# Altium footprint library Tiresias_mechanical.PcbLib: 16 footprints
Each footprint in its own frame and in the unit in brackets; x right, y up, seen from the top. Pads: shape width x height; smd on the part's side, far side on the other; paste and mask are expansions set on the pad; w line width, h text height; cw(c..) or ccw(c..) is an arc to the next point about the centre after c.
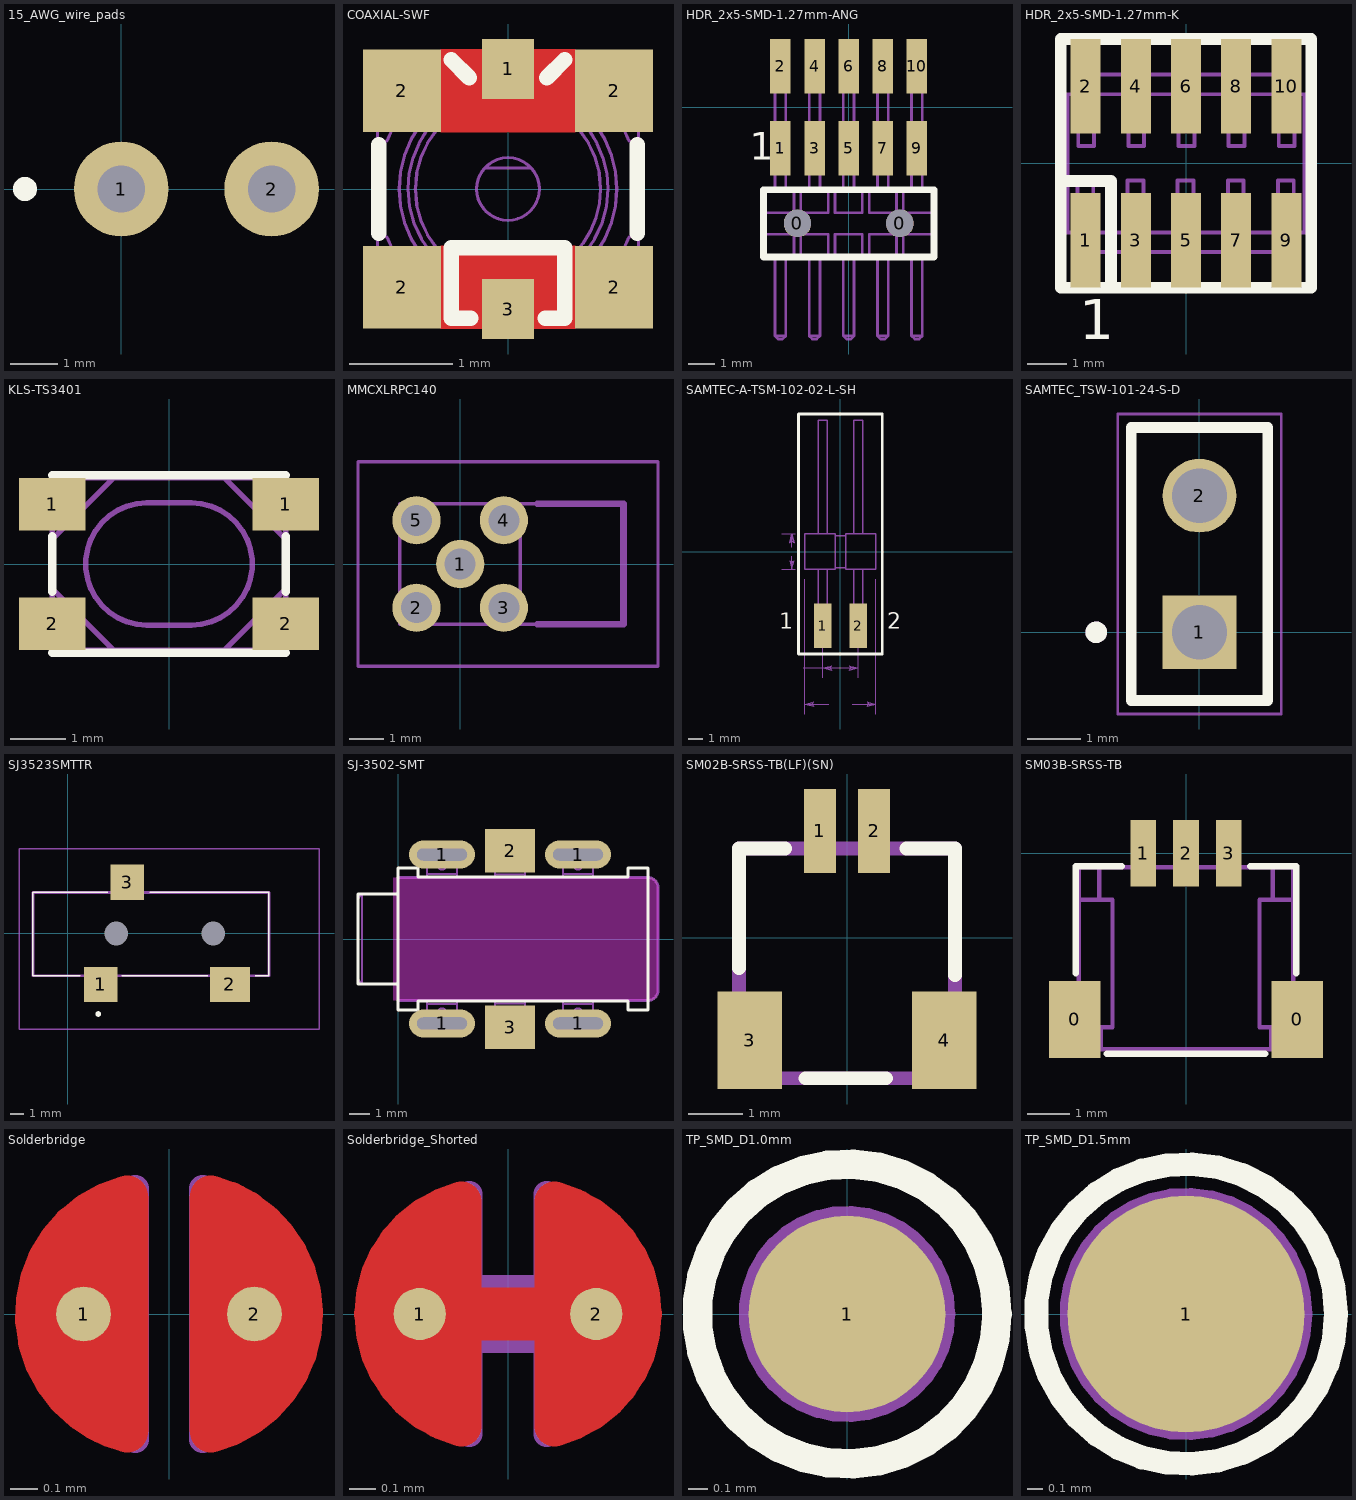
[diagram p0: the footprints below, top view; thin cyan lines are the x and y axes]

## 15_AWG_wire_pads [mm]
pads (2):
  round 2 / inner round 1.524 / far side round 2 hole 1: 1(0,0) 2(3.175,0)
Top Overlay:
  circle w0.254: c-2.032,0 r0.127

## COAXIAL-SWF [mm]
pads (6):
  rect 0.5x0.58 smd: 1(0,1.16) 3(0,-1.16)
  rect 0.75x0.8 smd: 2(-1.025,-0.95) 2(-1.025,0.95) 2(1.025,-0.95) 2(1.025,0.95)
Top Layer:
  pour cut-out: -0.65,0.55 0.65,0.55 0.65,1.35 -0.65,1.35
  pour cut-out: 0.65,-0.55 -0.65,-0.55 -0.65,-1.35 0.65,-1.35
Top Overlay:
  lines w0.15: -1.25,-0.43 -1.25,0.43 ; -0.55,1.25 -0.375,1.075 ; -0.36,-1.25 -0.55,-1.25 -0.55,-0.57 0.55,-0.57 0.55,-1.25 0.36,-1.25 ; 0.375,1.075 0.55,1.25 ; 1.25,-0.43 1.25,0.43
Mechanical 7:
  drawing of 206 lines, arcs and shapes, not listed
  text ".Designator" at -0.785,-0.7 h0.38
3D body: height 0.15, standoff 0, extent -0.227,-1.301 0.227,-0.758
3D body: height 0.15, standoff 0, extent -0.227,0.899 0.227,1.299
3D body: height 0.6, standoff 0.55, extent -1.262,-1.248 1.262,1.251
3D body: height 1.4, standoff 0.6, extent -0.9,-0.9 0.9,0.901
3D body: height 0.75, standoff 0.6, extent -1.05,-1.049 1.05,1.05
3D body: height 0.95, standoff 0.75, extent -1,-0.999 1,1.001
3D body: height 0.6, standoff 0, extent 0.757,0.655 1.262,1.249
3D body: height 0.6, standoff 0, extent 0.757,-1.246 1.262,-0.653
3D body: height 0.6, standoff 0, extent -1.262,-1.25 -0.757,-0.649
3D body: height 0.6, standoff 0, extent -1.262,0.655 -0.757,1.248
3D body: height 0.55, standoff 0.1, extent -1.262,-1.252 1.262,1.253
3D body: height 0.9, standoff 0.6, extent -1.05,-1.049 1.05,1.05
3D body: height 1.25, standoff 0.95, extent -1.05,-1.049 1.05,1.05
3D body: height 1.55, standoff 1.25, extent -1.05,-1.05 1.05,1.05

## HDR_2x5-SMD-1.27mm-ANG [mm]
pads (12):
  round 1.02 hole 1.02 unplated: 0(-1.905,-4.32) 0(1.905,-4.32)
  rect 0.76x2.03 smd: 1(-2.54,-1.525) 2(-2.54,1.525) 3(-1.27,-1.525) 4(-1.27,1.525) 5(0,-1.525) 6(0,1.525) 7(1.27,-1.525) 8(1.27,1.525) 9(2.54,-1.525) 10(2.54,1.525)
Top Overlay:
  lines w0.254: -3.17,-5.57 3.17,-5.57 3.17,-3.07 -3.17,-3.07 -3.17,-5.57
  text "1" at -3.68,-1.96 h1.02
Mechanical 7:
  lines w0.1: -3.17,-4.72 -2.032,-4.72 -2.032,-5.57 ; -3.17,-3.92 -2.032,-3.92 -2.032,-3.048 ; -2.74,-5.57 -2.74,-8.5 ; -2.74,-3.048 -2.74,2.282 -2.34,2.282 -2.34,-3.048 ; -2.74,-0.758 -2.34,-0.758 ; -2.74,1.472 -2.34,1.472 ; -2.34,-5.57 -2.34,-8.5 ; -1.778,-5.57 -1.778,-4.72 -0.762,-4.72 -0.762,-5.57 ; -1.778,-3.048 -1.778,-3.92 -0.762,-3.92 -0.762,-3.048 ; -1.47,-5.57 -1.47,-8.5 ; -1.47,-3.048 -1.47,2.282 -1.07,2.282 -1.07,-3.048 ; -1.47,-0.758 -1.07,-0.758 ; -1.47,1.472 -1.07,1.472 ; -1.07,-5.57 -1.07,-8.5 ; -0.508,-5.57 -0.508,-4.72 0.508,-4.72 0.508,-5.57 ; -0.508,-3.048 -0.508,-3.92 0.508,-3.92 0.508,-3.048 ; -0.2,-5.57 -0.2,-8.5 ; -0.2,-3.048 -0.2,2.282 0.2,2.282 0.2,-3.048 ; -0.2,-0.758 0.2,-0.758 ; -0.2,1.472 0.2,1.472 ; 0.2,-5.57 0.2,-8.5 ; 0.762,-5.57 0.762,-4.72 1.778,-4.72 1.778,-5.57 ; 0.762,-3.048 0.762,-3.92 1.778,-3.92 1.778,-3.048 ; 1.07,-5.57 1.07,-8.5 ; 1.07,-3.048 1.07,2.282 1.47,2.282 1.47,-3.048 ; 1.07,-0.758 1.47,-0.758 ; 1.07,1.472 1.47,1.472 ; 1.47,-5.57 1.47,-8.5 ; 2.032,-5.57 2.032,-4.72 3.17,-4.72 ; 2.032,-3.048 2.032,-3.92 3.17,-3.92 ; 2.34,-5.57 2.34,-8.5 ; 2.34,-3.048 2.34,2.282 2.74,2.282 2.74,-3.048 ; 2.34,-0.758 2.74,-0.758 ; 2.34,1.472 2.74,1.472 ; 2.74,-5.57 2.74,-8.5 ; -2.74,-8.5 -2.34,-8.5 ; -2.74,-8.5 -2.62,-8.62 -2.46,-8.62 -2.34,-8.5 ; -1.47,-8.5 -1.07,-8.5 ; -1.47,-8.5 -1.35,-8.62 -1.19,-8.62 -1.07,-8.5 ; -0.2,-8.5 -0.08,-8.62 0.08,-8.62 0.2,-8.5 ; -0.2,-8.5 0.2,-8.5 ; 1.07,-8.5 1.47,-8.5 ; 1.07,-8.5 1.19,-8.62 1.35,-8.62 1.47,-8.5 ; 2.34,-8.5 2.74,-8.5 ; 2.34,-8.5 2.46,-8.62 2.62,-8.62 2.74,-8.5 ; -3.17,-5.57 3.17,-5.57 3.17,-3.048 -3.17,-3.048 -3.17,-5.57
  text ".Designator" at -1.504,-4.407 h0.3
3D body "Samtec-FTSH-105-01-L-DH-A.step": height 3.41, standoff -1.03, extent -3.175,-8.627 3.175,2.27

## HDR_2x5-SMD-1.27mm-K [mm]
pads (10):
  rect 0.76x2.4 smd: 1(-2.54,-1.95) 2(-2.54,1.95) 3(-1.27,-1.95) 4(-1.27,1.95) 5(0,-1.95) 6(0,1.95) 7(1.27,-1.95) 8(1.27,1.95) 9(2.54,-1.95) 10(2.54,1.95)
Top Overlay:
  lines w0.3: -3.175,-0.45 -1.9,-0.45 -1.9,-3.15 ; -3.175,-3.15 3.175,-3.15 3.175,3.15 -3.175,3.15 -3.175,-3.15
  text "1" at -2.7,-4.45 h1.02
Mechanical 7:
  lines w0.1: -2.74,-1.75 -2.74,-2.459 ccw(c-2.54,-2.459) -2.34,-2.459 -2.34,-2.25 ; -2.74,1.75 -2.74,2.459 cw(c-2.54,2.459) -2.34,2.459 -2.34,2.25 ; -2.5,-1.75 -2.5,-2.25 -1.25,-2.25 ; -2.5,1.75 -2.5,2.25 2.5,2.25 2.5,1.75 ; -1.47,-2.25 -1.47,-2.459 ccw(c-1.27,-2.459) -1.07,-2.459 -1.07,-2.25 ; -1.47,2.25 -1.47,2.459 cw(c-1.27,2.459) -1.07,2.459 -1.07,2.25 ; -1.25,-1.75 -1.25,-2.25 ; -0.2,-2.25 -0.2,-2.459 ccw(c0,-2.459) 0.2,-2.459 0.2,-2.25 ; -0.2,2.25 -0.2,2.459 cw(c0,2.459) 0.2,2.459 0.2,2.25 ; 1.07,-2.25 1.07,-2.459 ccw(c1.27,-2.459) 1.47,-2.459 1.47,-2.25 ; 1.07,2.25 1.07,2.459 cw(c1.27,2.459) 1.47,2.459 1.47,2.25 ; 1.25,-1.75 1.25,-2.25 ; 2.34,-2.25 2.34,-2.459 ccw(c2.54,-2.459) 2.74,-2.459 2.74,-1.75 ; 2.34,2.25 2.34,2.459 cw(c2.54,2.459) 2.74,2.459 2.74,1.75 ; 2.5,-1.75 2.5,-2.25 1.25,-2.25 ; -1.25,-2.25 1.25,-2.25 ; -3,-1.75 3,-1.75 3,1.75 -3,1.75 -3,-1.75 ; -2.75,-0.835 -2.35,-0.835 -2.35,-0.435 -2.75,-0.435 -2.75,-0.835 ; -2.73,0.435 -2.33,0.435 -2.33,0.835 -2.73,0.835 -2.73,0.435 ; -1.48,-0.835 -1.08,-0.835 -1.08,-0.435 -1.48,-0.435 -1.48,-0.835 ; -1.46,0.435 -1.06,0.435 -1.06,0.835 -1.46,0.835 -1.46,0.435 ; -0.21,-0.835 0.19,-0.835 0.19,-0.435 -0.21,-0.435 -0.21,-0.835 ; -0.19,0.435 0.21,0.435 0.21,0.835 -0.19,0.835 -0.19,0.435 ; 1.06,-0.835 1.46,-0.835 1.46,-0.435 1.06,-0.435 1.06,-0.835 ; 1.08,0.435 1.48,0.435 1.48,0.835 1.08,0.835 1.08,0.435 ; 2.33,-0.835 2.73,-0.835 2.73,-0.435 2.33,-0.435 2.33,-0.835 ; 2.35,0.435 2.75,0.435 2.75,0.835 2.35,0.835 2.35,0.435
  text ".Designator" at -0.457,-0.203 h0.38
3D body "Samtec-FTSH-105-01-F-DV-K.step": height 6.11, standoff -0.01, extent -3.137,-2.921 3.137,2.921

## KLS-TS3401 [mm]
pads (4):
  rect 1.2x0.95 smd: 1(-2.1,1.075) 1(2.1,1.075) 2(-2.1,-1.075) 2(2.1,-1.075)
Top Overlay:
  lines w0.15: -2.1,-1.6 2.1,-1.6 ; -2.1,-0.5 -2.1,0.5 ; -2.1,1.6 2.1,1.6 ; 2.1,-0.5 2.1,0.5
Mechanical 7:
  lines w0.1: -2.1,-1.35 -2.3,-1.35 -2.3,-0.8 -2.1,-0.8 ; -2.1,-0.45 -1,-1.55 ; -2.1,0.45 -1,1.55 ; -2.1,0.8 -2.3,0.8 -2.3,1.35 -2.1,1.35 ; 1,-1.55 2.1,-0.45 ; 1,1.55 2.1,0.45 ; 2.1,-1.35 2.3,-1.35 2.3,-0.8 2.1,-0.8 ; 2.1,0.8 2.3,0.8 2.3,1.35 2.1,1.35 ; -2.1,-1.45 ccw(c-2,-1.45) -2,-1.55 2,-1.55 ccw(c2,-1.45) 2.1,-1.45 2.1,1.45 ccw(c2,1.45) 2,1.55 -2,1.55 ccw(c-2,1.45) -2.1,1.45 -2.1,-1.45 ; -0.4,-1.1 cw(c-0.4,0) -0.4,1.1 0.4,1.1 cw(c0.4,0) 0.4,-1.1 -0.4,-1.1
  text ".Designator" at -1.523,-0.092 h0.3
3D body "Y97LT25BADBFP_-PTS810 SJ 250 SMTR.stp": height 2.5, standoff 0, extent -2.287,-1.6 2.288,1.6

## MMCXLRPC140 [mm]
pads (5):
  round 1.4 hole 0.9: 1(0,0) 2(-1.27,-1.27) 3(1.27,-1.27) 4(1.27,1.27) 5(-1.27,1.27)
Mechanical 3:
  lines w0.1: 1.75,-1.75 4.75,-1.75 4.75,1.75 1.75,1.75 ; 1.75,-1.75 -1.75,-1.75 -1.75,1.75 1.75,1.75 ; 1.75,-1.75 1.75,1.75 ; -2.97,-2.97 -2.97,2.97 5.75,2.97 5.75,-2.97 -2.97,-2.97
Mechanical 7:
  lines w0.2: 2.25,-1.75 4.75,-1.75 4.75,1.75 2.25,1.75
3D body "MMCX-J-P-H-RA-TH1.stp": height 4.29, standoff -2.51, extent -1.726,-1.778 4.774,1.722

## SAMTEC-A-TSM-102-02-L-SH [mm]
pads (2):
  rect 1.27x3.18 smd: 1(-1.27,-5.283) 2(1.27,-5.283)
Top Overlay:
  lines w0.2: -2.99,-7.324 -2.99,9.848 2.99,9.848 2.99,-7.324 -2.99,-7.324
  text "1" at -4.36,-5.918 h1.97
  text "2" at 3.331,-5.918 h1.97
Top Paste:
  rectangle: -1.905,-6.873 -0.635,-3.693
  rectangle: 0.635,-6.873 1.905,-3.693
Top Solder:
  rectangle: -1.956,-6.924 -0.584,-3.642
  rectangle: 0.584,-6.924 1.956,-3.642
Mechanical 16:
  lines w0.1: -1.588,-1.27 -1.588,-6.096 -0.952,-6.096 -0.952,-1.27 ; -1.588,1.27 -1.588,9.398 -0.952,9.398 -0.952,1.27 ; -0.381,-1.143 0,-1.143 0.381,-1.143 ; -0.381,1.143 0,1.143 0.381,1.143 ; 0.952,-1.27 0.952,-6.096 1.588,-6.096 1.588,-1.27 ; 0.952,1.27 0.952,9.398 1.588,9.398 1.588,1.27 ; -2.54,-1.27 -2.54,1.27 -0.381,1.27 -0.381,-1.27 -2.54,-1.27 ; 0.381,-1.27 2.54,-1.27 2.54,1.27 0.381,1.27 0.381,-1.27
  text "1" at -4.36,-5.918 h1.97
  text "2" at 3.331,-5.918 h1.97
Mechanical 40:
  lines w0: -4.181,-1.27 -3.241,-1.27 ; -4.181,1.27 -3.241,1.27 ; -3.48,-0.318 -3.48,-1.27 ; -3.48,0.318 -3.48,1.27 ; -2.642,-8.318 -1.27,-8.318 ; -2.54,-11.61 -2.54,-1.971 ; -1.27,-9.02 -1.27,-5.984 ; -0.851,-10.909 -2.54,-10.909 ; 0.851,-10.909 2.54,-10.909 ; 1.27,-9.02 1.27,-5.984 ; 2.54,-11.61 2.54,-1.971 ; -3.639,-0.635 -3.48,-1.27 ; -3.639,-0.635 -3.48,-0.762 ; -3.639,-0.635 -3.559,-0.698 -3.48,-1.27 ; -3.48,-1.27 -3.321,-0.635 -3.48,-0.762 ; -3.48,-1.27 -3.4,-0.698 -3.48,-0.762 ; -3.48,-1.27 -3.48,-0.762 ; -3.48,0.762 -3.639,0.635 -3.48,1.27 ; -3.48,0.762 -3.321,0.635 ; -3.48,0.762 -3.559,0.698 -3.48,1.27 ; -3.48,0.762 -3.48,1.27 ; -3.48,1.27 -3.321,0.635 ; -3.48,1.27 -3.4,0.698 -3.321,0.635 ; -2.54,-10.909 -1.905,-10.751 ; -2.54,-10.909 -1.905,-11.068 -2.032,-10.909 ; -2.54,-10.909 -1.968,-10.989 -2.032,-10.909 ; -2.54,-10.909 -2.032,-10.909 ; -2.54,-10.909 -1.968,-10.83 -1.905,-10.751 ; -2.032,-10.909 -1.905,-10.751 ; -1.27,-8.318 -0.635,-8.16 ; -1.27,-8.318 -0.635,-8.477 -0.762,-8.318 ; -1.27,-8.318 -0.698,-8.398 -0.762,-8.318 ; -1.27,-8.318 -0.762,-8.318 ; -1.27,-8.318 -0.698,-8.239 -0.635,-8.16 ; -1.27,-8.318 1.27,-8.318 ; -0.762,-8.318 -0.635,-8.16 ; 0.635,-8.477 1.27,-8.318 ; 0.635,-8.477 0.762,-8.318 ; 0.635,-8.477 0.698,-8.398 1.27,-8.318 ; 0.762,-8.318 0.635,-8.16 1.27,-8.318 ; 0.762,-8.318 0.698,-8.239 1.27,-8.318 ; 0.762,-8.318 1.27,-8.318 ; 1.905,-11.068 2.54,-10.909 ; 1.905,-11.068 2.032,-10.909 ; 1.905,-11.068 1.968,-10.989 2.54,-10.909 ; 2.032,-10.909 1.905,-10.751 2.54,-10.909 ; 2.032,-10.909 1.968,-10.83 2.54,-10.909 ; 2.032,-10.909 2.54,-10.909
  text "5.080" at -0.66,-11.036 h0.39
  text "2.540" at -4.153,-8.446 h0.39
  text "2.540" at -4.14,-0.127 h0.39
Mechanical 42:
  lines w0.1: -2.99,-7.324 -2.99,9.848 2.99,9.848 2.99,-7.324 -2.99,-7.324
3D body "TSM-102-02-L-SH.stp": height 3.05, standoff 0, extent -2.54,-6.096 2.54,9.398

## SAMTEC_TSW-101-24-S-D [mm]
pads (2):
  rect 1.37x1.37 hole 1.02: 1(0,0)
  round 1.37 hole 1.02: 2(0,2.54)
Top Overlay:
  circle w0.2: c-1.92,0 r0.1
  lines w0.2: -1.27,-1.27 -1.27,3.81 1.27,3.81 1.27,-1.27 -1.27,-1.27
Mechanical 13:
  circle w0.2: c-1.92,0 r0.1
  lines w0.1: -1.27,-1.27 -1.27,3.81 1.27,3.81 1.27,-1.27 -1.27,-1.27
Mechanical 15:
  lines w0.05: -1.52,-1.52 -1.52,4.06 1.52,4.06 1.52,-1.52 -1.52,-1.52
3D body "TSW-101-24-S-D.stp": height 9.27, standoff -2.92, extent -1.27,-1.397 1.27,3.683

## SJ3523SMTTR [mm]
pads (5):
  rect 2.4x2.55 smd: 1(2.385,-3.675) 3(4.285,3.675)
  rect 2.9x2.55 smd: 2(11.685,-3.675)
  round 0.85 hole 1.7 unplated: MH1(3.5,0) MH2(10.5,0)
Top Overlay:
  lines w0.1: 0.9,-3.05 -2.5,-3.05 -2.5,2.95 2.9,2.95 ; 3.9,-3.05 10.1,-3.05 ; 5.9,2.95 14.5,2.95 ; 13.5,-3.05 14.5,-3.05 14.5,-1.5 14.5,3
  lines w0.2: 2.1,-5.8 ccw(c2.2,-5.8) 2.3,-5.8 ccw(c2.2,-5.8) 2.1,-5.8
Mechanical 15:
  lines w0.2: -2.5,-3.05 14.5,-3.05 14.5,2.95 -2.5,2.95 -2.5,-3.05
Mechanical 20:
  lines w0.1: -3.5,-6.9 18.1,-6.9 18.1,6.1 -3.5,6.1 -3.5,-6.9
3D body "SJ-3523-SMT-TR--3DModel-STEP-1.STEP": height 5.55, standoff -0.25, extent -2.531,-4.555 14.469,4.445

## SJ-3502-SMT [mm]
pads (10):
  oval 3.3x1.4 hole 0.6 slot 2.5 at 0 deg: 1(2.2,-4.225) 1(2.2,4.225) 1(9,-4.225) 1(9,4.225)
  rect 2.5x2.175 smd: 2(5.6,4.413) 3(5.6,-4.413)
  oval 3.3x1.4 on Top Paste: ""(2.2,-4.225) ""(2.2,4.225) ""(9,-4.225) ""(9,4.225)
Top Overlay:
  lines w0.15: 0,-3.55 1,-3.55 1,-3.1 ; 0,3.55 1,3.55 1,3.1 ; 11.5,-3.1 11.5,-3.55 12.5,-3.55 ; 11.5,3.1 11.5,3.55 12.5,3.55
  lines w0.152: 0,-3.55 0,3.55 ; 0,-2.25 -2,-2.25 -2,2.25 0,2.25 ; 1,-3.1 11.5,-3.1 ; 1,3.1 11.5,3.1 ; 12.5,-3.55 12.5,3.55
Keep-Out Layer:
  board cut-out: -0.25,3.07 12.5,3.07 12.599,3.07 12.783,2.994 12.924,2.853 13,2.669 13,2.57 13,-2.57 13,-2.669 12.924,-2.853 12.783,-2.994 12.599,-3.07 12.5,-3.07 -0.25,-3.07
Mechanical 1:
  lines w0.15: 0,-3.07 12.5,-3.07 ccw(c12.5,-2.57) 13,-2.57 13,2.57 ccw(c12.5,2.57) 12.5,3.07 0,3.07
Mechanical 7:
  lines w0.1: -2.002,-2.046 -2.002,2.047 ; -2.001,-2.045 -1.797,-2.249 ; -2.002,2.045 -1.797,2.249 ; 0,-2.249 -1.797,-2.249 ; 0,2.249 -1.797,2.249 ; 1.456,-3.25 2.95,-3.25 ; 1.456,-3.117 1.456,-4.25 2,-4.25 2,-3.667 cw(c2.2,-3.667) 2.4,-3.667 2.4,-4.25 2.95,-4.25 2.95,-3.117 ; 1.456,3.117 1.456,4.25 2,4.25 2,3.667 ccw(c2.2,3.667) 2.4,3.667 2.4,4.25 2.95,4.25 2.95,3.117 ; 1.456,3.25 2.95,3.25 ; 4.856,-3.233 6.35,-3.233 ; 4.856,-3.1 4.856,-4.883 ccw(c5.06,-4.876) 5.053,-5.081 6.153,-5.081 ccw(c6.16,-4.891) 6.35,-4.883 6.35,-3.1 ; 4.856,3.1 4.856,4.883 cw(c5.06,4.876) 5.053,5.081 6.153,5.081 cw(c6.16,4.891) 6.35,4.883 6.35,3.1 ; 4.856,3.233 6.35,3.233 ; 8.256,-3.25 9.75,-3.25 ; 8.256,-3.117 8.256,-4.25 8.8,-4.25 8.8,-3.667 cw(c9,-3.667) 9.2,-3.667 9.2,-4.25 9.75,-4.25 9.75,-3.117 ; 8.256,3.117 8.256,4.25 8.8,4.25 8.8,3.667 ccw(c9,3.667) 9.2,3.667 9.2,4.25 9.75,4.25 9.75,3.117 ; 8.256,3.25 9.75,3.25 ; -1.797,-2.249 -1.797,2.249 ; 0,-3.55 0,3.55 1,3.55 1,3.1 11.5,3.1 11.5,3.55 12.5,3.55 12.5,-3.55 11.5,-3.55 11.5,-3.1 1,-3.1 1,-3.55 0,-3.55 ; 5.4,-4.5 ccw(c5.6,-4.5) 5.8,-4.5 5.8,-3.65 ccw(c5.6,-3.65) 5.4,-3.65 5.4,-4.5 ; 5.4,3.65 ccw(c5.6,3.65) 5.8,3.65 5.8,4.5 ccw(c5.6,4.5) 5.4,4.5 5.4,3.65
  text ".Designator" at 7.024,0.092 h0.3
3D body "CUI_DEVICES_SJ-3502-SMT-TR.step": height 2.75, standoff -1.75, extent -2,-4.95 12.5,4.95

## SM02B-SRSS-TB(LF)(SN) [mm]
pads (4):
  rect 0.6x1.55 smd: 1(-0.5,1.975) 2(0.5,1.975)
  rect 1.2x1.8 smd: 3(-1.8,-1.9) 4(1.8,-1.9)
Top Overlay:
  lines w0.254: -2,-0.563 -2,1.65 -1.145,1.65 ; -0.767,-2.6 0.722,-2.6 ; 1.1,1.65 2,1.65 2,-0.697
Mechanical 13:
  lines w0.254: -2,-2.6 -2,1.65 2,1.65 2,-2.6 -2,-2.6
3D body "SM02B-SRSS-TB-LF--SN---3DModel-STEP-56544.STEP": height 2.95, standoff 0, extent -2,-2.475 2,2.475

## SM03B-SRSS-TB [mm]
pads (5):
  rect 1.2x1.8 smd: 0(-2.6,-3.875) 0(2.6,-3.875)
  rect 0.6x1.55 smd: 1(-1,0) 2(0,0) 3(1,0)
Top Overlay:
  lines w0.15: -2.575,-2.8 -2.575,-0.3 -1.5,-0.3 ; -1.85,-4.681 1.85,-4.681 ; 1.5,-0.3 2.575,-0.3 2.575,-2.8
Mechanical 7:
  lines w0.1: -2.5,-1.084 -2.027,-1.084 ; -2.027,-0.325 -2.027,-1.084 ; -1.989,-4.575 -1.989,-4.058 -1.716,-4.058 -1.716,-1.084 -2.027,-1.084 ; -1.152,-0.325 -1.152,0.164 cw(c-1.002,0.164) -0.852,0.164 -0.852,-0.325 ; -0.153,-0.325 -0.153,0.164 cw(c-0.003,0.164) 0.147,0.164 0.147,-0.325 ; 0.847,-0.325 0.847,0.164 cw(c0.997,0.164) 1.147,0.164 1.147,-0.325 ; 1.989,-4.575 1.989,-4.058 1.716,-4.058 1.716,-1.084 2.027,-1.084 ; 2.5,-1.084 2.027,-1.084 ; 2.027,-1.084 2.027,-0.325 ; 2.027,-0.325 2.5,-0.325 2.5,-4.575 -2.5,-4.575 -2.5,-0.325 2.027,-0.325
  text ".Designator" at 1.645,-2.486 h0.3
3D body "SM03B-SRSS-TB.STEP": height 2.95, standoff -0.01, extent -2.5,-4.606 2.5,0.344

## Solderbridge [mm]
pads (2):
  round 0.2 smd paste-10: 1(-0.312,0) 2(0.312,0)
Top Layer:
  region: 0.077,0.432 0.152,0.505 0.271,0.467 0.335,0.424 0.409,0.351 0.462,0.292 0.521,0.193 0.549,0.099 0.544,-0.122 0.518,-0.193 0.434,-0.33 0.351,-0.411 0.259,-0.469 0.157,-0.5 0.107,-0.483 0.077,-0.43
  region: -0.077,-0.432 -0.152,-0.505 -0.271,-0.467 -0.335,-0.424 -0.409,-0.351 -0.462,-0.292 -0.521,-0.193 -0.549,-0.099 -0.544,0.122 -0.518,0.193 -0.434,0.33 -0.351,0.411 -0.259,0.469 -0.157,0.5 -0.107,0.483 -0.077,0.43
  lines w0.152: -0.153,-0.431 cw(c-0.042,0) -0.312,-0.353 cw(c-0.042,0) -0.153,0.431 ; 0.153,-0.431 ccw(c0.042,0) 0.338,0.332 ccw(c0.042,0) 0.153,0.431
Top Solder:
  circle w0.61: c-0.003,0 r0.279
Mechanical 7:
  lines w0.1: -0.123,-0.459 cw(c-0.042,0) -0.123,0.459 -0.123,-0.459 ; 0.123,-0.459 ccw(c0.042,0) 0.123,0.459 0.123,-0.459
  text ".Designator" at 0.474,0.077 h0.3

## Solderbridge_Shorted [mm]
pads (2):
  round 0.2 smd paste-10: 1(-0.338,0) 2(0.338,0)
Top Layer:
  region: 0.102,0.432 0.178,0.505 0.296,0.467 0.361,0.424 0.434,0.351 0.488,0.292 0.546,0.193 0.574,0.099 0.569,-0.122 0.544,-0.193 0.46,-0.33 0.376,-0.411 0.284,-0.469 0.183,-0.5 0.132,-0.483 0.102,-0.43
  region: -0.102,-0.432 -0.178,-0.505 -0.296,-0.467 -0.361,-0.424 -0.434,-0.351 -0.488,-0.292 -0.546,-0.193 -0.574,-0.099 -0.569,0.122 -0.544,0.193 -0.46,0.33 -0.376,0.411 -0.284,0.469 -0.183,0.5 -0.132,0.483 -0.102,0.43
  lines w0.152: -0.178,-0.431 cw(c-0.068,0) -0.178,0.431 ; 0.178,-0.431 ccw(c0.068,0) 0.178,0.431
  lines w0.203: -0.338,0 0.338,0
Top Solder:
  circle w0.61: c0.028,0 r0.279
  circle w0.61: c-0.028,0 r0.279
Mechanical 7:
  lines w0.1: -0.148,-0.459 cw(c-0.067,0) -0.148,0.459 -0.148,0.1 0.148,0.1 0.148,0.459 cw(c0.067,0) 0.148,-0.459 0.148,-0.1 -0.148,-0.1 -0.148,-0.459
  text ".Designator" at -2.775,-0.089 h0.3

## TP_SMD_D1.0mm [mm]
pads (1):
  round 1 smd paste-5: 1(0,0)
Top Overlay:
  circle w0.15: c0,0 r0.762
Mechanical 7:
  circle w0.1: c0,0 r0.762
  circle w0.1: c0,0 r0.5
  text ".Designator" at 1.524,0.092 h0.3

## TP_SMD_D1.5mm [mm]
pads (1):
  round 1.5 smd paste-5: 1(0,0)
Top Overlay:
  circle w0.15: c0,0 r0.95
Mechanical 7:
  circle w0.1: c0,0 r0.95
  circle w0.1: c0,0 r0.75
  text ".Designator" at 1.518,0.096 h0.3
3D body: height 0.05, standoff 0, extent -0.75,-0.75 0.75,0.75